# Altium footprint library WE-XTAL.PcbLib: 3 footprints
Each footprint in its own frame and in the unit in brackets; x right, y up, seen from the top. Pads: shape width x height; smd on the part's side, far side on the other; paste and mask are expansions set on the pad; w line width, h text height; cw(c..) or ccw(c..) is an arc to the next point about the centre after c.
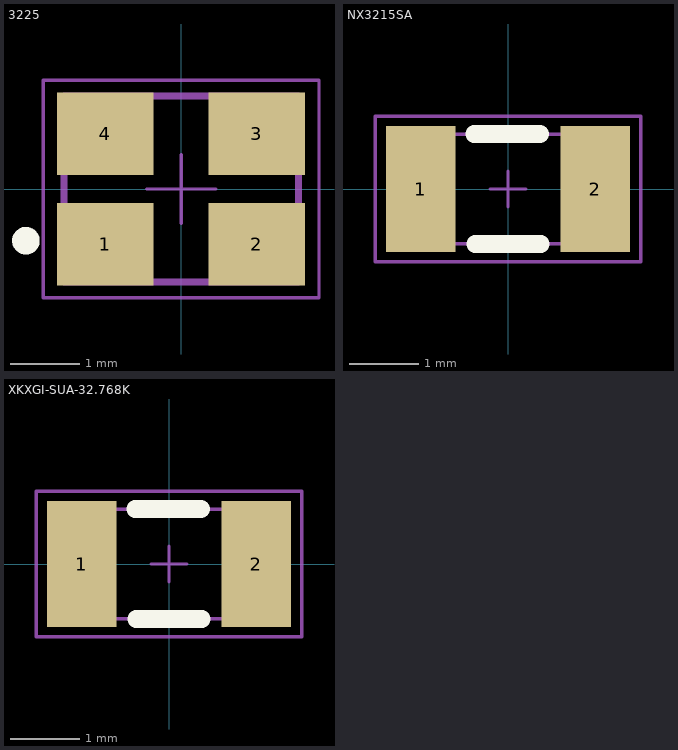
[diagram p0: the footprints below, top view; thin cyan lines are the x and y axes]

## 3225 [mm] "Quartz Crystal, size 3225, body 3.4x2.7mm"
height 0.8
pads (4):
  rect 1.4x1.2 smd: 1(-1.1,-0.8) 2(1.1,-0.8) 3(1.1,0.8) 4(-1.1,0.8)
Top Overlay:
  circle w0.2: c-2.25,-0.75 r0.1
Top Designator:
  text ".Designator" at -5.998,-0.4 h1.2
M11 Assembly Top:
  circle w0.1: c-1.25,-0.9 r0.2
  lines w0.1: -1.7,-1.35 -1.7,1.35 1.7,1.35 1.7,-1.35 -1.7,-1.35
M13 3D Top:
  lines w0.1: -1.7,-1.35 1.7,-1.35 1.7,1.35 -1.7,1.35 -1.7,-1.35
M15 Courtyard Top:
  lines w0.05: -0.5,0 0.5,0 ; 0,-0.5 0,0.5 ; -2,-1.575 2,-1.575 2,1.575 -2,1.575 -2,-1.575
3D body "FrqXTAL_CFPX-180.stp": height 0.65, standoff 0, extent -1.7,-1.35 1.7,1.35

## NX3215SA [mm]
pads (2):
  rect 1x1.8 smd: 1(-1.25,0) 2(1.25,0)
Top Overlay:
  lines w0.254: -0.483,0.787 0.457,0.787 ; -0.47,-0.787 0.47,-0.787
Top Designator:
  text ".Designator" at -5.998,-0.4 h1.2
M13 3D Top:
  lines w0.05: -1.651,-0.787 1.626,-0.787 1.626,0.787 -1.651,0.787 -1.651,-0.787
M15 Courtyard Top:
  lines w0.05: -0.254,0 0.254,0 ; 0,-0.254 0,0.254 ; -1.905,-1.041 -1.905,1.041 1.905,1.041 1.905,-1.041 -1.905,-1.041
3D body "NX3215SA-32.768K-STD-MUA-14--3DModel-STEP-1.STEP": height 0.9, standoff 0, extent -1.6,-0.75 1.6,0.75

## XKXGI-SUA-32.768K [mm]
pads (2):
  rect 1x1.8 smd: 1(-1.25,0) 2(1.25,0)
Top Overlay:
  lines w0.254: -0.483,0.787 0.457,0.787 ; -0.47,-0.787 0.47,-0.787
Top Designator:
  text ".Designator" at -5.998,-0.4 h1.2
M13 3D Top:
  lines w0.05: -1.651,-0.787 1.626,-0.787 1.626,0.787 -1.651,0.787 -1.651,-0.787
M15 Courtyard Top:
  lines w0.05: -0.254,0 0.254,0 ; 0,-0.254 0,0.254 ; -1.905,-1.041 -1.905,1.041 1.905,1.041 1.905,-1.041 -1.905,-1.041
3D body "NX3215SA-32.768K-STD-MUA-14--3DModel-STEP-1.STEP": height 0.9, standoff 0, extent -1.6,-0.75 1.6,0.75